# Altium footprint library lib_diodesinc.PcbLib: 6 footprints
Each footprint in its own frame and in the unit in brackets; x right, y up, seen from the top. Pads: shape width x height; smd on the part's side, far side on the other; paste and mask are expansions set on the pad; w line width, h text height; cw(c..) or ccw(c..) is an arc to the next point about the centre after c.
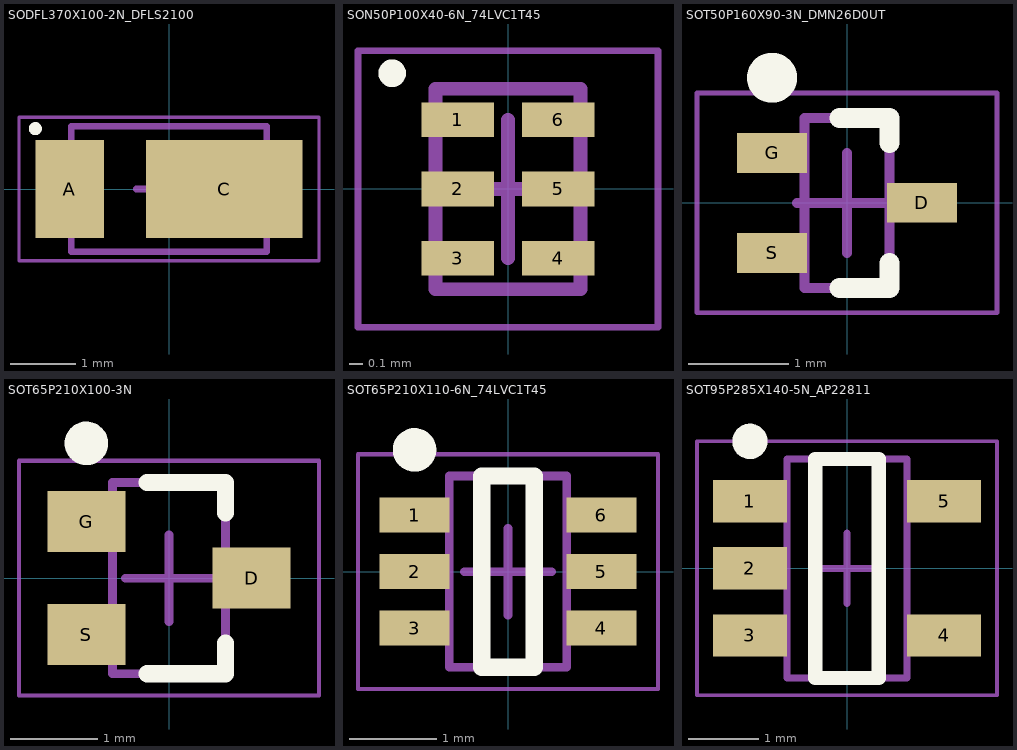
[diagram p0: the footprints below, top view; thin cyan lines are the x and y axes]

## SODFL370X100-2N_DFLS2100 [mm] "SODFL, 2-Leads, Body 1.78x3.70mm, IPC Medium Density"
height 1
pads (2):
  rect 1.05x1.5 smd: A(-1.525,0)
  rect 2.4x1.5 smd: C(0.85,0)
Top Overlay:
  circle w0.1: c-2.05,0.925 r0.05
Mechanical 13:
  lines w0.1: -1.5,-0.96 1.5,-0.96 1.5,0.96 -1.5,0.96 -1.5,-0.96
Mechanical 15:
  lines w0.05: -2.3,-1.1 2.3,-1.1 2.3,1.1 -2.3,1.1 -2.3,-1.1
  lines w0.1: -0.5,0 0.5,0 ; 0,-0.5 0,0.5
3D body "SODFL370X100-2N_DFLS2100.step": height 1, standoff 0, extent -1.85,-0.96 1.85,0.96

## SON50P100X40-6N_74LVC1T45 [mm] "SON, 6-Leads, Body 1.40x1.00mm, Pitch 0.50mm, IPC Medium Density"
height 0.4
pads (6):
  rect 0.525x0.25 smd: 1(-0.363,0.5) 2(-0.363,0) 3(-0.363,-0.5) 4(0.362,-0.5) 5(0.362,0) 6(0.362,0.5)
Top Overlay:
  circle w0.1: c-0.837,0.837 r0.05
Mechanical 13:
  lines w0.1: -0.525,-0.725 0.525,-0.725 0.525,0.725 -0.525,0.725 -0.525,-0.725
Mechanical 15:
  lines w0.05: -1.085,-1 1.085,-1 1.085,1 -1.085,1 -1.085,-1
  lines w0.1: -0.5,0 0.5,0 ; 0,-0.5 0,0.5
3D body "SON50P100X40-6N_74LVC1T45.step": height 0.4, standoff 0, extent -0.525,-0.725 0.525,0.725

## SOT50P160X90-3N_DMN26D0UT [mm] "SOT23, 3-Leads, Body 1.60x1.60mm, Pitch 0.50mm, IPC Medium Density"
height 0.9
pads (3):
  rect 0.7x0.4 smd: D(0.75,0) G(-0.75,0.5) S(-0.75,-0.5)
Top Overlay:
  circle w0.25: c-0.75,1.25 r0.125
  lines w0.2: -0.075,-0.85 0.425,-0.85 0.425,-0.6 ; -0.075,0.85 0.425,0.85 0.425,0.6
Mechanical 13:
  lines w0.1: -0.425,-0.85 -0.425,0.85 0.425,0.85 0.425,-0.85 -0.425,-0.85
Mechanical 15:
  lines w0.05: -1.5,-1.1 -1.5,1.1 1.5,1.1 1.5,-1.1 -1.5,-1.1
  lines w0.1: -0.5,0 0.5,0 ; 0,-0.5 0,0.5
3D body "SOT50P160X90-3N_DMN26D0UT.step": height 0.9, standoff 0, extent -0.975,-0.85 0.975,0.85

## SOT65P210X100-3N [mm] "SOT23, 3-Leads, Body 2,00x2,10mm, Pitch 0,65mm, IPC Medium Density"
height 1
pads (3):
  rect 0.9x0.7 smd: D(0.95,0) G(-0.95,0.65) S(-0.95,-0.65)
Top Overlay:
  circle w0.25: c-0.95,1.55 r0.125
  lines w0.2: -0.25,-1.1 0.65,-1.1 0.65,-0.75 ; -0.25,1.1 0.65,1.1 0.65,0.75
Mechanical 13:
  lines w0.1: -0.65,-1.1 0.65,-1.1 0.65,1.1 -0.65,1.1 -0.65,-1.1
Mechanical 15:
  lines w0.05: -1.725,-1.35 1.725,-1.35 1.725,1.35 -1.725,1.35 -1.725,-1.35
  lines w0.1: -0.5,0 0.5,0 ; 0,-0.5 0,0.5
3D body "SOT65P210X100-3N.step": height 1, standoff 0, extent -1.1,-1.1 1.1,1.1

## SOT65P210X110-6N_74LVC1T45 [mm] "SOT23, 6-Leads, Body 2.00x2.10mm, Pitch 0.65mm, IPC Medium Density"
height 1.1
pads (6):
  rect 0.8x0.4 smd: 1(-1.075,0.65) 2(-1.075,0) 3(-1.075,-0.65) 4(1.075,-0.65) 5(1.075,0) 6(1.075,0.65)
Top Overlay:
  circle w0.25: c-1.075,1.4 r0.125
  lines w0.2: -0.3,-1.1 0.3,-1.1 0.3,1.1 -0.3,1.1 -0.3,-1.1
Mechanical 13:
  lines w0.1: -0.675,-1.1 -0.675,1.1 0.675,1.1 0.675,-1.1 -0.675,-1.1
Mechanical 15:
  lines w0.05: -1.725,-1.35 -1.725,1.35 1.725,1.35 1.725,-1.35 -1.725,-1.35
  lines w0.1: -0.5,0 0.5,0 ; 0,-0.5 0,0.5
3D body "SOT65P210X110-6N_74LVC1T45.step": height 1.1, standoff 0, extent -1.1,-1.1 1.1,1.1

## SOT95P285X140-5N_AP22811 [mm] "SOT23, 5-Leads, Body 3.00x2.85mm, Pitch 0.95mm, IPC Medium Density"
height 1.4
pads (5):
  rect 1.05x0.6 smd: 1(-1.375,0.95) 2(-1.375,0) 3(-1.375,-0.95) 4(1.375,-0.95) 5(1.375,0.95)
Top Overlay:
  circle w0.25: c-1.375,1.8 r0.125
  lines w0.2: -0.45,-1.55 0.45,-1.55 0.45,1.55 -0.45,1.55 -0.45,-1.55
Mechanical 13:
  lines w0.1: -0.85,-1.55 -0.85,1.55 0.85,1.55 0.85,-1.55 -0.85,-1.55
Mechanical 15:
  lines w0.05: -2.125,-1.8 -2.125,1.8 2.125,1.8 2.125,-1.8 -2.125,-1.8
  lines w0.1: -0.5,0 0.5,0 ; 0,-0.5 0,0.5
3D body "SOT95P285X140-5N_AP22811.step": height 1.4, standoff 0, extent -1.5,-1.55 1.5,1.55